# EAGLE library part ST485 (library IC)
ST-485 RS-485 Transceiver
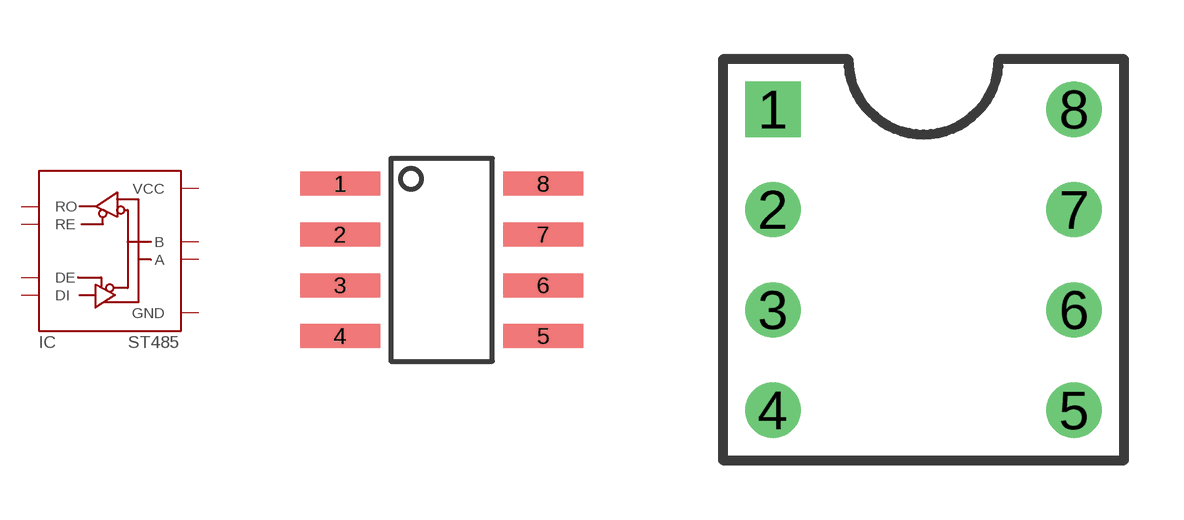
[diagram p13: symbol with the pads of SO8; footprints SO8, DIP-8C]

Designator prefix IC

## ST485D  [SO8]
1  RO
2  RE
3  DE
4  DI
5  GND  pwr
6  A
7  B
8  VCC  pwr

## ST485N  [DIP-8C]
Pads as for SO8

## Footprint SO8 (pad centres in mm)
smd 2 x 0.6: 1 -2.54,1.905; 2 -2.54,0.635; 3 -2.54,-0.635; 4 -2.54,-1.905; 5 2.54,-1.905; 6 2.54,-0.635; 7 2.54,0.635; 8 2.54,1.905

## Footprint DIP-8C (pad centres in mm)
drill 0.889 square: 1 -3.81,3.81
drill 0.889 round: 2 -3.81,1.27; 3 -3.81,-1.27; 4 -3.81,-3.81; 5 3.81,-3.81; 6 3.81,-1.27; 7 3.81,1.27; 8 3.81,3.81